# Altium integrated library Infineon ESD & EMI.IntLib: 71 symbols (part 1 of 2)
Pins are listed as number, name and electrical type; pins without a type are passive.

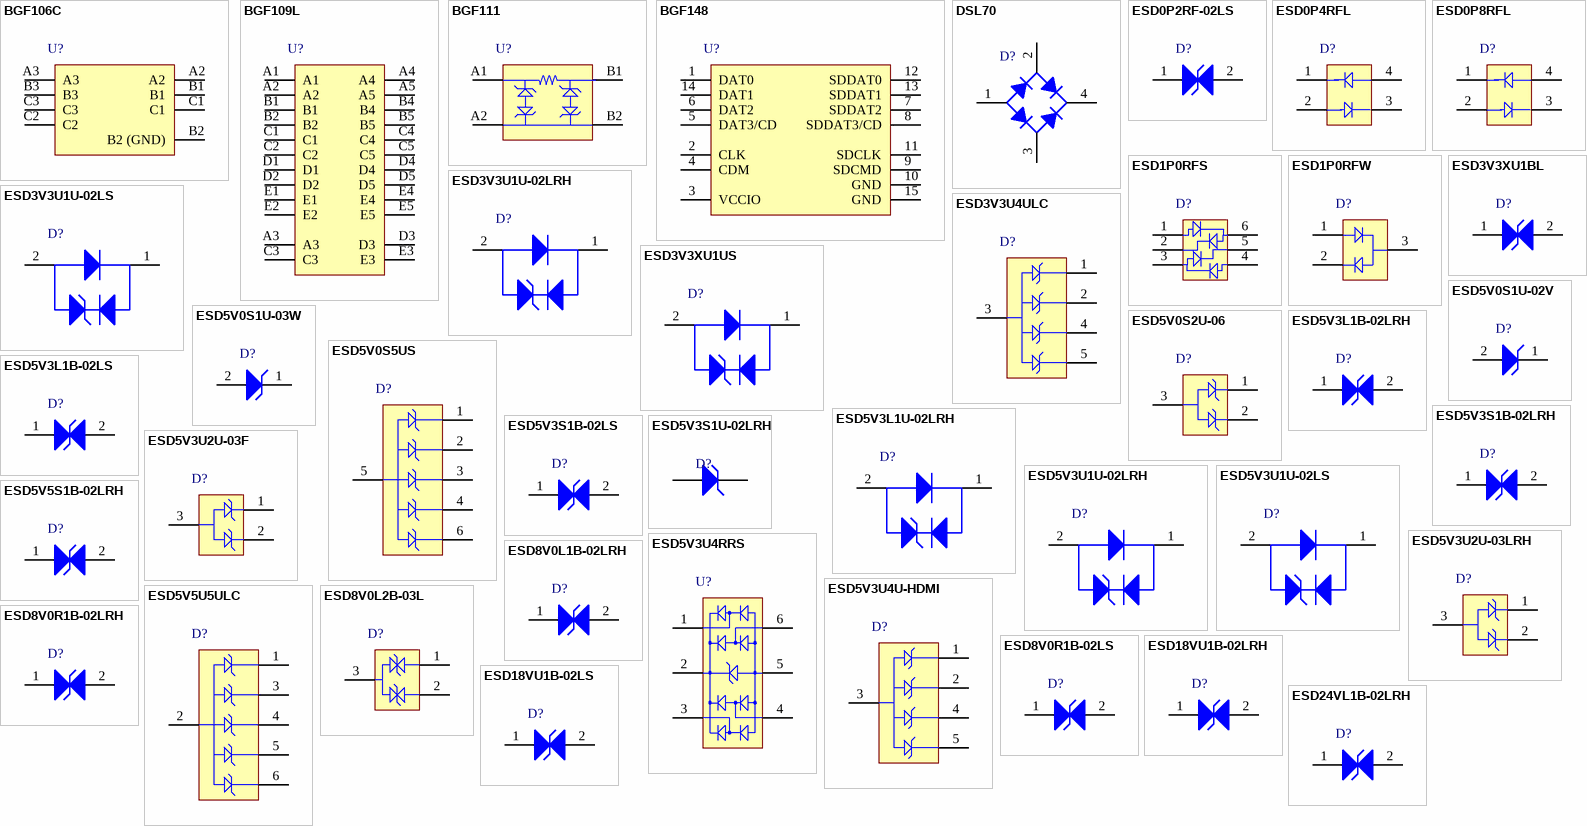
[diagram p0: symbols BGF106C to ESD24VL1B-02LRH]

## BGF106C
designator U?
SIM Card Interface Filter and ESD Protection, -40 to 85 degC, WLP-8-11, Reel, Green; Manufacturer: Infineon; PartNumber: BGF106C; Ct, Cl @ 0V: 16.5 pF; Green: TRUE; GSM-Rejection: -12.7 dB, -17 dB; Line Resistance: 47 Ohm, 100 Ohm; Protected Lines: 4; VBR (min): 6.5 V; VESD (max) (IEC61000-4-2 contact): 15 kV; VESD (min) (IEC61000-4-2 contact): -15 kV; Vop (max): 5.5 V; DatasheetVersion: Rev. 2.0; PackageVersion: Jan-10; PackageReference: WLP-8-11; PackageDescription: 8-Pin Wafer Level Package, Body 1.2 x 1.2 mm, Pitch 0.4 mm; Halogen-free: TRUE; Packing: Reel; Mounting Technology: Surface Mount; ComponentLink1Description: Manufacturer URL; ComponentLink1URL: http://www.infineon.com/; ComponentLink2Description: Datasheet; ComponentLink2URL: http://www.infineon.com/dgdl/BGF106C.pdf?folderId=db3a30431f848401011fcbf2ab4c04c4&fileId=db3a304325305e6d01254e6c63bb54a0; ComponentLink3Description: Package Specification; ComponentLink3URL: http://www.infineon.com/dgdl/WLP-8-11-Package_Overview.pdf?folderId=db3a304325afd6e001261e185c2c6090&fileId=db3a304325afd6e001261e1ff7f260a9
footprint INF-WLP-8-11 (BGA, 8-Balls, Body 1.2x1.2mm, Pitch 0.4mm)
pins: A2, A3, B1, B2 B2 (GND), B3, C1, C2, C3

## BGF109L
designator U?
10 Channel LCD Filter Array with ESD Protection, -40 to 85 degC, WLP-24-4, Reel, Green; Manufacturer: Infineon; PartNumber: BGF109L; Ct, Cl @ 0V: 42.5 pF; Green: TRUE; GSM-Rejection: 46 dB; Line Resistance: 90 Ohm; Protected Lines: 10; VBR (min): 6.5 V; VESD (max) (IEC61000-4-2 contact): 15 kV; VESD (min) (IEC61000-4-2 contact): -15 kV; Vop (max): 5 V; DatasheetVersion: Rev. 3.0; PackageVersion: May-08; PackageReference: WLP-24-4; PackageDescription: 24-Pin Wafer Level Package, Body 2.1 x 2.1 mm, Pitch 0.4 mm; Halogen-free: TRUE; Packing: Reel; Mounting Technology: Surface Mount; ComponentLink1Description: Manufacturer URL; ComponentLink1URL: http://www.infineon.com/; ComponentLink2Description: Datasheet; ComponentLink2URL: http://www.infineon.com/dgdl/bgf109l.pdf?folderId=db3a30431441fb5d011488a97dc80dec&fileId=db3a30431ed1d7b2011f65cb89970645; ComponentLink3Description: Package Specification; ComponentLink3URL: http://www.infineon.com/dgdl/WLP-24-4-Package_Overview.pdf?folderId=db3a304317a748360118336ce0a76d41&fileId=db3a304319c6f18c011a0a782471318b
footprint INF-WLP-24-4 (BGA, 24-Balls, Body 2.1x2.1mm, Pitch 0.4mm)
pins: A1, A2, A3, A4, A5, B1, B2, B4, B5, C1, C2, C3, C4, C5, D1, D2, D3, D4, D5, E1, E2, E3, E4, E5

## BGF111
designator U?
TV-Out Filter and ESD Protection, -40 to 85 degC, WLP-4-1, Reel, Green; Manufacturer: Infineon; PartNumber: BGF111; Ct, Cl @ 0V: 44 pF; Green: TRUE; GSM-Rejection: 34 dB; Line Resistance: 75 Ohm; Protected Lines: 1; VBR (min): 16.5 V; VESD (max) (IEC61000-4-2 contact): 15 kV; VESD (min) (IEC61000-4-2 contact): -15 kV; Vop (max): 5 V; DatasheetVersion: Rev. 2.0; PackageVersion: May-08; PackageReference: WLP-4-1; PackageDescription: 4-Pin Wafer Level Package, Body 0.75 x 0.75 mm, Pitch 0.4 mm; Halogen-free: TRUE; Packing: Reel; Mounting Technology: Surface Mount; ComponentLink1Description: Manufacturer URL; ComponentLink1URL: http://www.infineon.com/; ComponentLink2Description: Datasheet; ComponentLink2URL: http://www.infineon.com/dgdl/bgf111.pdf?folderId=db3a30431441fb5d0114883802cf0d02&fileId=db3a30431ed1d7b2011f65d72c5d0655; ComponentLink3Description: Package Specification; ComponentLink3URL: http://www.infineon.com/dgdl/WLP-4-1-Package_Overview.pdf?folderId=db3a30431689f4420116b4275619065e&fileId=db3a304319c6f18c011a06f22d893757
footprint INF-WLP-4-1 (BGA, 4-Balls, Body 0.75x0.75mm, Pitch 0.4mm)
pins: A1, A2 A2 (GND), B1, B2 B2 (GND)

## BGF148
designator U?
7 Line ESD and EMI Interface Protection Device, -40 to 85 degC, TSNP-14, Reel, Green; Manufacturer: Infineon; PartNumber: BGF148; Ct, Cl @ 0V: 1.2 pF; Green: TRUE; Line Resistance: 20 Ohm; Rdyn: 0.03 Ohm; Vcl @ Ipp: 8.5 V; VESD(min)(IEC61000-4-2 contact): 15 kV; Vop (max): 5.5 V; DatasheetVersion: Rev. 1.9.2; PackageVersion: Feb-13; PackageReference: TSNP-14-2; PackageDescription: 14-Pin Thin Small Non Leaded Package, 1.95 x 1.8 mm Body, 0.4 mm Pitch; Halogen-free: TRUE; Packing: Reel; Mounting Technology: Surface Mount; ComponentLink1Description: Manufacturer URL; ComponentLink1URL: http://www.infineon.com/; ComponentLink2Description: Datasheet; ComponentLink2URL: http://www.infineon.com/dgdl/BGF148_v1.9.2.pdf?folderId=db3a30431f848401011fcbf2ab4c04c4&fileId=db3a304340155f3d014029da72bd036a; ComponentLink3Description: Package Specification; ComponentLink3URL: http://www.infineon.com/dgdl/TSNP-14-2-Package_Overview.pdf?folderId=db3a304327b89750012805e1379a6124&fileId=db3a30433cabdd35013cc89975906470
footprint INF-TSNP-14-2_V (TSNP, 14-Leads, Body 1.95x1.8mm, Pitch 0.4mm, Thermal Pad 0.95x0.95mm)
pins: 1 DAT0 "Int. PIN", 2 CLK "Int. PIN", 3 VCCIO "Ext. PIN", 4 CDM "Int. PIN", 5 DAT3/CD, 6 DAT2 "Int. PIN", 7 SDDAT2 "Ext. PIN", 8 SDDAT3/CD, 9 SDCMD "Ext. PIN", 10 GND, 11 SDCLK "Ext. PIN", 12 SDDAT0 "Ext. PIN", 13 SDDAT1 "Ext. PIN", 14 DAT1 "Int. PIN", 15 GND

## DSL70
designator D?
Silicon TVS Diodes Array, -55 to 125 degC, SOT143, Reel, Green; Manufacturer: Infineon; PartNumber: DSL70; CL (max): 5 pF; CL (typ): 2.5 pF; Green: TRUE; IEFT: 80 A; IR (max): 5 uA; Rdyn typ reverse: 0.1 Ohm; VESD (max): 15 kV; VESD (min): -15 kV; VRWM: 50 V; PackageReference: SOT143; PackageDescription: 4-Pin Small Outline Transistor Package, 1.3 x 2.9 mm Body; Supplier 1: Mouser; Supplier Part Number 1: N/A; Packing: Reel; Mounting Technology: Surface Mount; ComponentLink1Description: Manufacturer URL; ComponentLink1URL: http://www.infineon.com/; ComponentLink2Description: Datasheet; ComponentLink2URL: http://www.infineon.com/dgdl/dsl70.pdf?folderId=db3a30431441fb5d0114927dbe551006&fileId=db3a30431441fb5d0114927e397f1007; ComponentLink3Description: Package Specification; ComponentLink3URL: http://www.infineon.com/dgdl/SOT143-Package_Overview.pdf?folderId=db3a30431936bc4b011952ce8b1b3bed&fileId=db3a30431936bc4b011952df42203c0c
footprint INF-SOT143_V (SOT143, 4-Leads, Body 2.9x1.3 mm)
pins: 1 A, 2 C, 3 C, 4 K

## ESD0P2RF-02LS
designator D?
Bi-Directional Ultra-low Capacitance ESD / Transient Protection Diode, PG-TSSLP-2-1, Reel, Green; Manufacturer: Infineon; PartNumber: ESD0P2RF-02LS; Green: TRUE; DatasheetVersion: Rev. 1.2; PackageVersion: Nov-10; PackageReference: PG-TSSLP-2-1; PackageDescription: 2-Pin Thin Super Small Leadless Package, Body 0.62 x 0.32 mm, Pitch 0.355 mm; Halogen-free: TRUE; Mounting Technology: Surface Mount; ComponentLink1Description: Manufacturer URL; ComponentLink1URL: http://www.infineon.com/; ComponentLink2Description: Datasheet; ComponentLink2URL: http://www.infineon.com/dgdl/ESD0P2RF+Series_ESD_Transient_Protection_Diode_Infineon_rev_1_2.pdf?folderId=db3a30431f848401011fcbf2ab4c04c4&fileId=db3a30433004641301300d0df89f7ac2; ComponentLink3Description: Package Specification; ComponentLink3URL: http://www.infineon.com/dgdl/TSSLP-2-1%2C-2-Package_Overview.pdf?folderId=db3a304319c6f18c011a05f3b79036a4&fileId=db3a304319c6f18c011a062088fd36bd
footprint INF-PG-TSSLP-2-1_V (TSSLP, 2 Leads, Body 0.62x0.32mm, Pitch 0.38mm)
pins: 1 C, 2 C

## ESD0P4RFL
designator D?
RF ESD Protection Diode, -50 to 150 degC, PG-TSLP-4-7, Reel, Green; Manufacturer: Infineon; PartNumber: ESD0P4RFL; CL (typ): 0.4 pF; Green: TRUE; IEFT: 40 A; IR (max): 100 uA; Isurge: 5 A; Protected Lines: 1; VESD (max): 15 kV; VRWM (max): 50 V; PackageVersion: Dec-09; PackageReference: PG-TSLP-4-7; PackageDescription: 4-Pin Thin Small Leadless Package, Body 1.2 x 0.8 mm, Pitch 0.45 mm; Halogen-free: TRUE; Packing: Reel; Mounting Technology: Surface Mount; ComponentLink1Description: Manufacturer URL; ComponentLink1URL: http://www.infineon.com/; ComponentLink2Description: Datasheet; ComponentLink2URL: http://www.infineon.com/dgdl/esd0p4rfl.pdf?folderId=db3a30431441fb5d01149221c9230fb2&fileId=db3a304318f3fe29011914ad9b81031f; ComponentLink3Description: Package Specification; ComponentLink3URL: http://www.infineon.com/dgdl/TSLP-4-7-Package_Overview.pdf?folderId=db3a304319bc939a0119bf25a0b300de&fileId=db3a304319bc939a0119bf31f7c200f7
footprint INF-PG-TSLP-4-7_V (TSLP, 4-Leads, Body 1.2x0.8mm, 0.45mm)
pins: 1 K1, 2 A2, 3 K2, 4 A1

## ESD0P8RFL
designator D?
RF ESD Protection Diode, -50 to 150 degC, PG-TSLP-4-7, Reel, Green; Manufacturer: Infineon; PartNumber: ESD0P8RFL; CL (typ): 0.8 pF; Green: TRUE; IEFT: 40 A; IR (max): 100 uA; Isurge: 10 A; Protected Lines: 1; VESD (max): 20 kV; VRWM (max): 50 V; PackageVersion: Dec-09; PackageReference: PG-TSLP-4-7; PackageDescription: 4-Pin Thin Small Leadless Package, Body 1.2 x 0.8 mm, Pitch 0.45 mm; Supplier 1: Mouser; Supplier Part Number 1: N/A; Halogen-free: TRUE; Packing: Reel; Mounting Technology: Surface Mount; ComponentLink1Description: Manufacturer URL; ComponentLink1URL: http://www.infineon.com/; ComponentLink2Description: Datasheet; ComponentLink2URL: http://www.infineon.com/dgdl/esd0p8rfl.pdf?folderId=db3a30431441fb5d01149221c9230fb2&fileId=db3a30431441fb5d0114922f25950fd5; ComponentLink3Description: Package Specification; ComponentLink3URL: http://www.infineon.com/dgdl/TSLP-4-7-Package_Overview.pdf?folderId=db3a304319bc939a0119bf25a0b300de&fileId=db3a304319bc939a0119bf31f7c200f7
footprint INF-PG-TSLP-4-7_V (TSLP, 4-Leads, Body 1.2x0.8mm, 0.45mm)
pins: 1 K1, 2 A2, 3 K2, 4 A1

## ESD1P0RFS
designator D?
RF ESD Protection Diode, -55 to 150 degC, SOT363, Reel, Green; Manufacturer: Infineon; PartNumber: ESD1P0RFS; CL (max): 1.5 pF; CL (typ): 1 pF; Green: TRUE; IEFT: 40 A; IR (max): 100 uA; Isurge: 10 A; Protected Lines: 1; VESD (max): 20 kV; VRWM (max): 70 V; PackageReference: SOT363; PackageDescription: 6-Pin Small Outline Transistor Package, 1.25 x 2 mm Body; Halogen-free: TRUE; Packing: Reel; Mounting Technology: Surface Mount; ComponentLink1Description: Manufacturer URL; ComponentLink1URL: http://www.infineon.com/; ComponentLink2Description: Datasheet; ComponentLink2URL: http://www.infineon.com/dgdl/esd1p0rfseries.pdf?folderId=db3a30431441fb5d01149221c9230fb2&fileId=db3a30431441fb5d01149228afda0fc7; ComponentLink3Description: Package Specification; ComponentLink3URL: http://www.infineon.com/dgdl/SOT363-Package_Overview.pdf?folderId=db3a30431936bc4b01195360bd8f3cdc&fileId=db3a30431936bc4b0119536b62bf3cf5
footprint INF-SOT363_V (SOT23, 6-Leads, Body 2x1.25 mm, Pitch 0.65 mm)
pins: 1 A1, 2 K2, 3 C3, 4 A4, 5 K5, 6 C6

## ESD1P0RFW
designator D?
RF ESD Protection Diode, -55 to 150 degC, SOT323, Reel, Green; Manufacturer: Infineon; PartNumber: ESD1P0RFW; CL (max): 1.5 pF; CL (typ): 1 pF; Green: TRUE; IEFT: 40 A; IR (max): 100 uA; Isurge: 10 A; Protected Lines: 1; Rdyn typ forward: 0 Ohm; VESD (max): 20 kV; VRWM (max): 70 V; PackageReference: SOT323; PackageDescription: 3-Pin Small Outline Transistor Package, 1.25 x 2 mm Body, 0.65 mm Pitch; Halogen-free: TRUE; Packing: Reel; Rdyn typ reverse: 0 Ohm; Mounting Technology: Surface Mount; ComponentLink1Description: Manufacturer URL; ComponentLink1URL: http://www.infineon.com/; ComponentLink2Description: Datasheet; ComponentLink2URL: http://www.infineon.com/dgdl/esd1p0rfseries.pdf?folderId=db3a30431441fb5d01149221c9230fb2&fileId=db3a30431441fb5d01149228afda0fc7; ComponentLink3Description: Package Specification; ComponentLink3URL: http://www.infineon.com/dgdl/SOT323-Package_Overview.pdf?folderId=db3a30431936bc4b0119533e1dcb3c92&fileId=db3a30431936bc4b011953495f283cb1
footprint INF-SOT323_N (SOT23, 3-Leads, Body 2x1.25 mm, Pitch 0.65 mm, IPC Medium Density)
footprint INF-SOT323_L (SOT23, 3-Leads, Body 2x1.25 mm, Pitch 0.65 mm, IPC High Density)
footprint INF-SOT323_M (SOT23, 3-Leads, Body 2x1.25 mm, Pitch 0.65 mm, IPC Low Density)
pins: 1 A1, 2 K2, 3 C

## ESD3V3U1U-02LRH
designator D?
Uni-directional Ultra-Low Capacitance ESD / Transient Protection Diode, -55 to 125 degC, PG-TSLP-2-7, Reel, Green; Manufacturer: Infineon; PartNumber: ESD3V3U1U-02LRH; CL (max): 0.6 pF; CL (typ): 0.4 pF; Green: TRUE; IEFT: 50 A; IR (max): 50 uA; Isurge: 3 A; Protected Lines: 1; Rdyn typ forward: 0.5 Ohm; Rdyn typ reverse: 0.6 Ohm; VESD (max): 20 kV; VRWM (max): 3.3 V; DatasheetVersion: Rev. 1.0; PackageVersion: Apr-13; PackageReference: PG-TSLP-2-7; PackageDescription: 2-Pin Thin Small Leadless Package, Body 1 x 0.6 mm, Pitch 0.65 mm; Supplier 1: Mouser; Supplier Part Number 1: N/A; Halogen-free: TRUE; Packing: Reel; Mounting Technology: Surface Mount; ComponentLink1Description: Manufacturer URL; ComponentLink1URL: http://www.infineon.com/; ComponentLink2Description: Datasheet; ComponentLink2URL: http://www.infineon.com/dgdl/ESD3V3U1USeries_ESD_Transient_Protection_Diode_Infineon.pdf?folderId=db3a30431441fb5d011488a9e66f0ded&fileId=db3a304316f66ee801173fe430ea3cdc; ComponentLink3Description: Package Specification; ComponentLink3URL: http://www.infineon.com/dgdl/TSLP-2-7%2C-17-Package_Overview.pdf?folderId=db3a30431936bc4b011956dca02837a0&fileId=db3a30431936bc4b01195723a67f37c1
footprint INF-PG-TSLP-2-7_V (TSLP, 2-Leads, Body 1x0.6mm, Pitch 0.65mm)
pins: 1 C1, 2 C2

## ESD3V3U1U-02LS
designator D?
Uni-directional Ultra-Low Capacitance ESD / Transient Protection Diode, -55 to 125 degC, PG-TSSLP-2-1, Reel, Green; Manufacturer: Infineon; PartNumber: ESD3V3U1U-02LS; CL (max): 0.6 pF; CL (typ): 0.4 pF; Green: TRUE; IEFT: 50 A; IR (max): 50 uA; Isurge: 3 A; Protected Lines: 1; Rdyn typ forward: 0.5 Ohm; Rdyn typ reverse: 0.6 Ohm; VESD (max): 20 kV; VRWM (max): 3.3 V; DatasheetVersion: Rev. 1.0; PackageVersion: Nov-10; PackageReference: PG-TSSLP-2-1; PackageDescription: 2-Pin Thin Super Small Leadless Package, Body 0.62 x 0.32 mm, Pitch 0.355 mm; Supplier 1: Mouser; Supplier Part Number 1: N/A; Halogen-free: TRUE; Packing: Reel; Mounting Technology: Surface Mount; ComponentLink1Description: Manufacturer URL; ComponentLink1URL: http://www.infineon.com/; ComponentLink2Description: Datasheet; ComponentLink2URL: http://www.infineon.com/dgdl/ESD3V3U1USeries_ESD_Transient_Protection_Diode_Infineon.pdf?folderId=db3a30431441fb5d011488a9e66f0ded&fileId=db3a304316f66ee801173fe430ea3cdc; ComponentLink3Description: Package Specification; ComponentLink3URL: http://www.infineon.com/dgdl/TSSLP-2-1%2C-2-Package_Overview.pdf?folderId=db3a304319c6f18c011a05f3b79036a4&fileId=db3a304319c6f18c011a062088fd36bd
footprint INF-PG-TSSLP-2-1_V (TSSLP, , Body 0.62x0.32mm, Pitch 0.38mm)
pins: 1 C1, 2 C2

## ESD3V3U4ULC
designator D?
Ultra-Low Capacitance ESD / Transient Protection Array, -40 to 125 degC, PG-TSLP-9-1, Reel, Green; Manufacturer: Infineon; PartNumber: ESD3V3U4ULC; CL (max): 0.65 pF; CL (typ): 0.4 pF; Green: TRUE; IEFT: 50 A; IR (max): 50 uA; Isurge: 3 A; Protected Lines: 4; Rdyn typ forward: 0.23 Ohm; Rdyn typ reverse: 0.19 Ohm; VESD (max): 20 kV; VRWM (max): 3.3 V; DatasheetVersion: Rev. 1.2; PackageVersion: Mar-13; PackageReference: PG-TSLP-9-1; PackageDescription: 9-Pin Thin Small Leadless Package, Body 2.3 x 1 mm, Pitch 0.5 mm; Halogen-free: TRUE; Packing: Reel; Mounting Technology: Surface Mount; ComponentLink1Description: Manufacturer URL; ComponentLink1URL: http://www.infineon.com/; ComponentLink2Description: Datasheet; ComponentLink2URL: http://www.infineon.com/dgdl/ESD3V3U4ULC_rev_1_2_ESD_Transient_Protection_Diode_Infineon.pdf?folderId=db3a30431f848401011fcbf2ab4c04c4&fileId=db3a30433004641301300d2a08107ac6; ComponentLink3Description: Package Specification; ComponentLink3URL: http://www.infineon.com/dgdl/ESD3V3U4ULC_rev_1_2_ESD_Transient_Protection_Diode_Infineon.pdf?folderId=db3a30431f848401011fcbf2ab4c04c4&fileId=db3a30433004641301300d2a08107ac6
footprint INF-PG-TSLP-9-1_V (TSLP, 9-Leads, Body 2.3x1mm)
pins: 1 K1, 2 K2, 3 A, 4 K4, 5 K5

## ESD3V3XU1BL
designator D?
Bi-directional Ultra-Low Capacitance ESD / Transient Protection Diode, -40 to 125 degC, PG-TSLP-2-17, Reel, Green; Manufacturer: Infineon; PartNumber: ESD3V3XU1BL; CL (typ): 0.22 pF; Green: TRUE; IEFT: 50 A; IR (max): 50 uA; Isurge: 3 A; Protected Lines: 1; Rdyn typ forward: 0.45 Ohm; VESD (max): 20 kV; VESD (min): -20 kV; VRWM (max): 3.6 V; VRWM (min): -3.6 V; DatasheetVersion: Rev. 1.2; PackageVersion: Apr-13; PackageReference: PG-TSLP-2-17; PackageDescription: 2-Pin Thin Small Leadless Package, Body 1 x 0.6 mm, Pitch 0.65 mm; Halogen-free: TRUE; Packing: Reel; Rdyn typ reverse: 0.45 Ohm; Mounting Technology: Surface Mount; ComponentLink1Description: Manufacturer URL; ComponentLink1URL: http://www.infineon.com/; ComponentLink2Description: Datasheet; ComponentLink2URL: http://www.infineon.com/dgdl/ESD3V3XU1BL_rev_1_2.pdf?folderId=db3a30431f848401011fcbf2ab4c04c4&fileId=db3a30433d346a2d013d3a8b10a63853; ComponentLink3Description: Package Specification; ComponentLink3URL: http://www.infineon.com/dgdl/TSLP-2-7%2C-17-Package_Overview.pdf?folderId=db3a30431936bc4b011956dca02837a0&fileId=db3a30431936bc4b01195723a67f37c1
footprint INF-PG-TSLP-2-17_V (TSLP, 2-Leads, Body 1x0.6mm, Pitch 0.65mm)
pins: 1 C, 2 C

## ESD3V3XU1US
designator D?
Uni-Directional Ultra Low Capacitance ESD / Transient Protection Diode, -40 to 125 degC, PG-TSSLP-2-1, Reel, Green; Manufacturer: Infineon; PartNumber: ESD3V3XU1US; Green: TRUE; DatasheetVersion: Rev. 1.1; PackageVersion: Nov-10; PackageReference: PG-TSSLP-2-1; PackageDescription: 2-Pin Thin Super Small Leadless Package, Body 0.62 x 0.32 mm, Pitch 0.355 mm; Halogen-free: TRUE; Mounting Technology: Surface Mount; ComponentLink1Description: Manufacturer URL; ComponentLink1URL: http://www.infineon.com/; ComponentLink2Description: Datasheet; ComponentLink2URL: http://www.infineon.com/dgdl/ESD3V3XU1U+Series_ESD_Transient_Protection_Diode_Infineon.pdf?folderId=db3a30431f848401011fcbf2ab4c04c4&fileId=db3a304332fc1ee7013320959f435233; ComponentLink3Description: Package Specification; ComponentLink3URL: http://www.infineon.com/dgdl/TSSLP-2-1%2C-2-Package_Overview.pdf?folderId=db3a304319c6f18c011a05f3b79036a4&fileId=db3a304319c6f18c011a062088fd36bd
footprint INF-PG-TSSLP-2-1_V (TSSLP, 2 Leads, Body 0.62x0.32mm, Pitch 0.38mm)
pins: 1 C1, 2 C2

## ESD5V0S1U-02V
designator D?
Uni-directional ESD / Transient Protection Diode, -55 to 125 degC, PG-SC79-2-1, Reel, Green; Manufacturer: Infineon; PartNumber: ESD5V0S1U-02V; CL (typ,max): 35 pF, 40 pF; Green: TRUE; IR (max): 100 uA; Rdyn typ forward: 0.3 Ohm; Rdyn typ reverse: 0.2 Ohm; VESD (max): 20 kV; VRWM (max): 5 V; DatasheetVersion: Rev. 1.1; PackageReference: PG-SC79-2-1; PackageDescription: 2-Pin Semiconductor Package, Body 0.8 x 1.2 mm, Pitch 1.35 mm; Halogen-free: TRUE; Packing: Reel; Mounting Technology: Surface Mount; ComponentLink1Description: Manufacturer URL; ComponentLink1URL: http://www.infineon.com/; ComponentLink2Description: Datasheet; ComponentLink2URL: http://www.infineon.com/dgdl/ESD5V0S1U-02V_ESD_Transient+_Protection_Diode_Infineon_rev_1_1.pdf?folderId=db3a30431f848401011fcbf2ab4c04c4&fileId=db3a304331a821aa0131b3950b730568; ComponentLink3Description: Package Specification; ComponentLink3URL: http://www.infineon.com/dgdl/SC79-Package_Overview.pdf?folderId=db3a30431936bc4b011951fbddb03b15&fileId=db3a30431936bc4b01195226fe583b41
footprint INF-PG-SC79-2-1_V (SC79, 2-Leads, Body 1.2x0.8mm, Pitch 1.35mm)
pins: 1 K, 2 A

## ESD5V0S1U-03W
designator D?
Silicon TVS Diode, -55 to 125 degC, SOD323, Reel, Green; Manufacturer: Infineon; PartNumber: ESD5V0S1U-03W; CL (max): 500 pF; CL (typ): 430 pF; Green: TRUE; IEFT: 80 A; IR (max): 20 uA; Rdyn typ forward: 6 Ohm; VESD (max): 30 kV; VESD (min): -30 kV; VRWM: 5 V; PackageReference: SOD323; PackageDescription: 2-Pin Small Outline Diode Package, 1.25 x 1.7 mm Body; Supplier 1: Mouser; Supplier Part Number 1: N/A; Packing: Reel; Rdyn typ reverse: 6 Ohm; Mounting Technology: Surface Mount; ComponentLink1Description: Manufacturer URL; ComponentLink1URL: http://www.infineon.com/; ComponentLink2Description: Datasheet; ComponentLink2URL: http://www.infineon.com/dgdl/esd5v0sseries.pdf?folderId=db3a30431441fb5d0114883802cf0d02&fileId=db3a30431441fb5d01148839aaf20d03; ComponentLink3Description: Package Specification; ComponentLink3URL: http://www.infineon.com/dgdl/SOD323-Package_Overview.pdf?folderId=db3a30431936bc4b011952aab84f3bbe&fileId=db3a30431936bc4b011952beed653be3
footprint INF-SOD323_V (SOD, 2-Leads, Body 1.7x1.25 mm)
pins: 1 K, 2 A

## ESD5V0S2U-06
designator D?
Silicon TVS Diode, -55 to 125 degC, SOT23, Reel, Green; Manufacturer: Infineon; PartNumber: ESD5V0S2U-06; CL (max): 500 pF; CL (typ): 430 pF; Green: TRUE; IEFT: 80 A; IR (max): 20 uA; Rdyn typ forward: 6 Ohm; VESD (max): 30 kV; VESD (min): -30 kV; VRWM: 5 V; PackageVersion: Apr-08; PackageReference: SOT23; PackageDescription: 3-Pin Small Outline Transistor Package, 1.3 x 2.9 mm Body, 0.95 mm Pitch; Supplier 1: Mouser; Supplier Part Number 1: N/A; Packing: Reel; Rdyn typ reverse: 6 Ohm; Mounting Technology: Surface Mount; ComponentLink1Description: Manufacturer URL; ComponentLink1URL: http://www.infineon.com/; ComponentLink2Description: Datasheet; ComponentLink2URL: http://www.infineon.com/dgdl/esd5v0sseries.pdf?folderId=db3a30431441fb5d0114883802cf0d02&fileId=db3a30431441fb5d01148839aaf20d03; ComponentLink3Description: Package Specification; ComponentLink3URL: http://www.infineon.com/dgdl/SOT23-Package_Overview.pdf?folderId=db3a30431936bc4b0119532290053c66&fileId=db3a30431936bc4b0119533468123c85
footprint INF-SOT23_N (SOT23, 3-Leads, Body 2.9x1.3 mm, Pitch 0.95 mm, IPC Medium Density)
footprint INF-SOT23_L (SOT23, 3-Leads, Body 2.9x1.3 mm, Pitch 0.95 mm, IPC High Density)
footprint INF-SOT23_M (SOT23, 3-Leads, Body 2.9x1.3 mm, Pitch 0.95 mm, IPC Low Density)
pins: 1 K1, 2 K2, 3 A

## ESD5V0S5US
designator D?
Multi-Channel TVS Diode Array, -55 to 125 degC, SOT363, Reel, Green; Manufacturer: Infineon; PartNumber: ESD5V0S5US; CL (max): 90 pF; CL (typ): 70 pF; Green: TRUE; IEFT: 80 A; IR (max): 5 uA; Rdyn typ forward: 0.15 Ohm; Rdyn typ reverse: 0.17 Ohm; VESD (max): 30 kV; VESD (min): -30 kV; VRWM: 5.3 V; PackageReference: SOT363; PackageDescription: 6-Pin Small Outline Transistor Package, 1.25 x 2 mm Body; Halogen-free: TRUE; Packing: Reel; Mounting Technology: Surface Mount; ComponentLink1Description: Manufacturer URL; ComponentLink1URL: http://www.infineon.com/; ComponentLink2Description: Datasheet; ComponentLink2URL: http://www.infineon.com/dgdl/esd5v0sxus.pdf?folderId=db3a30431441fb5d0114883802cf0d02&fileId=db3a30431441fb5d0114883be5d40d04; ComponentLink3Description: Package Specification; ComponentLink3URL: http://www.infineon.com/dgdl/SOT363-Package_Overview.pdf?folderId=db3a30431936bc4b01195360bd8f3cdc&fileId=db3a30431936bc4b0119536b62bf3cf5
footprint INF-SOT363_V (SOT23, 6-Leads, Body 2x1.25 mm, Pitch 0.65 mm)
pins: 1 K, 2 K, 3 K, 4 K, 5 A, 6 K

## ESD5V3L1B-02LRH
designator D?
Bi-directional Low Capacitance ESD / Transient Protection Diode, -40 to 125 degC, PG-TSLP-2-17, Reel, Green; Manufacturer: Infineon; PartNumber: ESD5V3L1B-02LRH; CL (typ,max): 5 pF, 7 pF; Green: TRUE; IR (max): 100 uA; Rdyn typ forward: 0.37 Ohm; Rdyn typ reverse: 0.22 Ohm; VESD (max): 20 kV; VRWM (max): 5.3 V; DatasheetVersion: Rev. 1.1; PackageVersion: Apr-13; PackageReference: PG-TSLP-2-17; PackageDescription: 2-Pin Thin Small Leadless Package, Body 1 x 0.6 mm, Pitch 0.65 mm; Halogen-free: TRUE; Packing: Reel; Mounting Technology: Surface Mount; ComponentLink1Description: Manufacturer URL; ComponentLink1URL: http://www.infineon.com/; ComponentLink2Description: Datasheet; ComponentLink2URL: http://www.infineon.com/dgdl/ESD5V3L1B+Series_rev_1_1_ESD_Transient_Protection_Diode_Infineon.pdf?folderId=db3a30431f848401011fcbf2ab4c04c4&fileId=db3a304331a821aa0131b3e5a2430578; ComponentLink3Description: Package Specification; ComponentLink3URL: http://www.infineon.com/dgdl/TSLP-2-7%2C-17-Package_Overview.pdf?folderId=db3a30431936bc4b011956dca02837a0&fileId=db3a30431936bc4b01195723a67f37c1
footprint INF-PG-TSLP-2-17_V (TSLP, 2-Leads, Body 1x0.6mm, Pitch 0.65mm)
pins: 1 C, 2 C

## ESD5V3L1B-02LS
designator D?
Bi-Directional Low Capacitance ESD / Transient Protection Diode, -40 to 125 degC, PG-TSSLP-2-1, Reel, Green; Manufacturer: Infineon; PartNumber: ESD5V3L1B-02LS; Green: TRUE; DatasheetVersion: Rev. 1.1; PackageVersion: Nov-10; PackageReference: PG-TSSLP-2-1; PackageDescription: 2-Pin Thin Super Small Leadless Package, Body 0.62 x 0.32 mm, Pitch 0.355 mm; Halogen-free: TRUE; Mounting Technology: Surface Mount; ComponentLink1Description: Manufacturer URL; ComponentLink1URL: http://www.infineon.com/; ComponentLink2Description: Datasheet; ComponentLink2URL: http://www.infineon.com/dgdl/ESD5V3L1B+Series_rev_1_1_ESD_Transient_Protection_Diode_Infineon.pdf?folderId=db3a30431f848401011fcbf2ab4c04c4&fileId=db3a304331a821aa0131b3e5a2430578; ComponentLink3Description: Package Specification; ComponentLink3URL: http://www.infineon.com/dgdl/TSSLP-2-1%2C-2-Package_Overview.pdf?folderId=db3a304319c6f18c011a05f3b79036a4&fileId=db3a304319c6f18c011a062088fd36bd
footprint INF-PG-TSSLP-2-1_V (TSSLP, 2 Leads, Body 0.62x0.32mm, Pitch 0.38mm)
pins: 1 C, 2 C

## ESD5V3L1U-02LRH
designator D?
Low Capacitance TVS Diode, -55 to 125 degC, PG-TSLP-2-17, Reel, Green; Manufacturer: Infineon; PartNumber: ESD5V3L1U-02LRH; CL (max): 2 pF; CL (typ): 1 pF; Green: TRUE; IEFT: 80 A; IR (max): 100 uA; Isurge: 6 A; Protected Lines: 1; Rdyn typ forward: 0.25 Ohm; Rdyn typ reverse: 0.3 Ohm; VESD (max): 30 kV; VRWM (max): 5.3 V; PackageVersion: Apr-13; PackageReference: PG-TSLP-2-17; PackageDescription: 2-Pin Thin Small Leadless Package, Body 1 x 0.6 mm, Pitch 0.65 mm; Halogen-free: TRUE; Packing: Reel; Mounting Technology: Surface Mount; ComponentLink1Description: Manufacturer URL; ComponentLink1URL: http://www.infineon.com/; ComponentLink2Description: Datasheet; ComponentLink2URL: http://www.infineon.com/dgdl/esd5v3l1u-02lrh.pdf?folderId=db3a30431f848401011fcbf2ab4c04c4&fileId=db3a3043284aacd8012895a71c230078; ComponentLink3Description: Package Specification; ComponentLink3URL: http://www.infineon.com/dgdl/TSLP-2-7%2C-17-Package_Overview.pdf?folderId=db3a30431936bc4b011956dca02837a0&fileId=db3a30431936bc4b01195723a67f37c1
footprint INF-PG-TSLP-2-17_V (TSLP, 2-Leads, Body 1x0.6mm, Pitch 0.65mm)
pins: 1 C1, 2 C2

## ESD5V3S1B-02LRH
designator D?
Silicon TVS Diode, -55 to 125 degC, TSLP-2-17, Reel, Green; Manufacturer: Infineon; PartNumber: ESD5V3S1B-02LRH; CL (typ,max): 17.5 pF, 20 pF; Green: TRUE; IR (max): 100 uA; Rdyn typ forward: 0.4 Ohm; VESD (max): 20 kV; VRWM (max): 5.3 V; PackageVersion: Apr-13; PackageReference: TSLP-2-17; PackageDescription: 2-Pin Thin Small Leadless Package, Body 1 x 0.6 mm, Pitch 0.65 mm; Halogen-free: TRUE; Packing: Reel; Rdyn typ reverse: 0.4 Ohm; Mounting Technology: Surface Mount; ComponentLink1Description: Manufacturer URL; ComponentLink1URL: http://www.infineon.com/; ComponentLink2Description: Datasheet; ComponentLink2URL: http://www.infineon.com/dgdl/esd5v3s1b-02lrh.pdf?folderId=db3a30431f848401011fcbf2ab4c04c4&fileId=db3a304320d39d590121aa3d31861c85; ComponentLink3Description: Package Specification; ComponentLink3URL: http://www.infineon.com/dgdl/TSLP-2-7%2C-17-Package_Overview.pdf?folderId=db3a30431936bc4b011956dca02837a0&fileId=db3a30431936bc4b01195723a67f37c1
footprint INF-TSLP-2-17_V (TSLP, 2-Leads, Body 1x0.6mm, Pitch 0.65mm)
pins: 1 C, 2 C

## ESD5V3S1B-02LS
designator D?
Bi-Directional Symmetrical Medium Capacitance ESD / Transient Protection Diode, -40 to 125 degC, PG-TSSLP-2, Reel, Green; Manufacturer: Infineon; PartNumber: ESD5V3S1B-02LS; CL (max): 20 pF; CL (typ): 17 pF; Green: TRUE; IR (max): 0.1 uA; Isurge: 5 A; Rdyn typ forward: 0.5 Ohm; VESD (max): 20 kV; VESD (min): -20 kV; VRWM (max): 5.3 V; VRWM (min): -5.3 V; DatasheetVersion: Rev. 1.0; PackageVersion: Nov-10; PackageReference: PG-TSSLP-2-1; PackageDescription: 2-Pin Thin Super Small Leadless Package, 0.62 x 0.32 mm Body, 0.355 mm Pitch; Halogen-free: TRUE; Packing: Reel; Rdyn typ reverse: 0.5 Ohm; Mounting Technology: Surface Mount; ComponentLink1Description: Manufacturer URL; ComponentLink1URL: http://www.infineon.com/; ComponentLink2Description: Datasheet; ComponentLink2URL: http://www.infineon.com/dgdl/ESD5V3S1B-02LS_ESD_Transient_Protection_Diode_Infineon.pdf?folderId=db3a30431f848401011fcbf2ab4c04c4&fileId=db3a3043341f67a1013422ea89c42fab; ComponentLink3Description: Package Specification; ComponentLink3URL: http://www.infineon.com/dgdl/TSSLP-2-1%2C-2-Package_Overview.pdf?folderId=db3a304319c6f18c011a05f3b79036a4&fileId=db3a304319c6f18c011a062088fd36bd
footprint INF-PG-TSSLP-2-1_V (TSSLP, 2 Leads, Body 0.62x0.32mm, Pitch 0.38mm)
pins: 1 C, 2 C

## ESD5V3S1U-02LRH
designator D?
Ultra Low Clamping Unidirectional ESD / Transient Protection Diode, -55 to 125 degC, TSLP-2, Reel, Green; Manufacturer: Infineon; PartNumber: ESD5V3S1U-02LRH; CL (max): 40 pF; CL (typ): 35 pF; Green: TRUE; IEFT: 50 A; IR (max): 0.1 uA; Isurge: 5.5 A; Rdyn typ forward: 0.27 Ohm; VESD (max): 25 kV; VESD (min): -25 kV; VRWM (max): 5.3 V; PackageVersion: Oct-13; PackageReference: TSLP-2-17; PackageDescription: 2-Pin Thin Small Leadless Package, 1 x 0.6 mm Body, 0.65 mm Pitch; Halogen-free: TRUE; Packing: Reel; Rdyn typ reverse: 0.27 Ohm; Mounting Technology: Surface Mount; ComponentLink1Description: Manufacturer URL; ComponentLink1URL: http://www.infineon.com/; ComponentLink2Description: Datasheet; ComponentLink2URL: http://www.infineon.com/dgdl/esd5v3s1u-02lrh.pdf?folderId=db3a30431f848401011fcbf2ab4c04c4&fileId=db3a3043243b5f17012475f71c984e73; ComponentLink3Description: Package Specification; ComponentLink3URL: http://www.infineon.com/dgdl/TSLP-2-7%2C-17%2C-21-Package_Overview.pdf?folderId=db3a30431689f4420116afb5e4d9058b&fileId=db3a304340155f3d01403574dc4c4cfd
footprint INF-TSLP-2-17_V (TSLP, 2-Leads, Body 1x0.6mm, Pitch 0.65mm)
pins: 1 K, 2 A

## ESD5V3U1U-02LRH
designator D?
Uni-directional Ultra-Low Capacitance ESD / Transient Protection Diode, -55 to 125 degC, PG-TSLP-2-7, Reel, Green; Manufacturer: Infineon; PartNumber: ESD5V3U1U-02LRH; CL (max): 0.6 pF; CL (typ): 0.4 pF; Green: TRUE; IEFT: 50 A; IR (max): 100 uA; Isurge: 3 A; Protected Lines: 1; Rdyn typ forward: 0.5 Ohm; Rdyn typ reverse: 0.6 Ohm; VESD (max): 20 kV; VRWM (max): 5.3 V; DatasheetVersion: Rev. 1.0; PackageVersion: Apr-13; PackageReference: PG-TSLP-2-7; PackageDescription: 2-Pin Thin Small Leadless Package, Body 1 x 0.6 mm, Pitch 0.65 mm; Supplier 1: Mouser; Supplier Part Number 1: N/A; Halogen-free: TRUE; Packing: Reel; Mounting Technology: Surface Mount; ComponentLink1Description: Manufacturer URL; ComponentLink1URL: http://www.infineon.com/; ComponentLink2Description: Datasheet; ComponentLink2URL: http://www.infineon.com/dgdl/ESD5V3U1USeries_ESD_Transient_Protection_Diode.pdf?folderId=db3a30431441fb5d011488a9e66f0ded&fileId=db3a304316f66ee801173fccac3b3cc7; ComponentLink3Description: Package Specification; ComponentLink3URL: http://www.infineon.com/dgdl/TSLP-2-7%2C-17-Package_Overview.pdf?folderId=db3a30431936bc4b011956dca02837a0&fileId=db3a30431936bc4b01195723a67f37c1
footprint INF-PG-TSLP-2-7_V (TSLP, 2-Leads, Body 1x0.6mm, Pitch 0.65mm)
pins: 1 C1, 2 C2

## ESD5V3U1U-02LS
designator D?
Uni-directional Ultra-Low Capacitance ESD / Transient Protection Diode, -55 to 125 degC, PG-TSSLP-2-1, Reel, Green; Manufacturer: Infineon; PartNumber: ESD5V3U1U-02LS; CL (max): 0.6 pF; CL (typ): 0.4 pF; Green: TRUE; IEFT: 50 A; IR (max): 100 uA; Isurge: 3 A; Protected Lines: 1; Rdyn typ forward: 0.5 Ohm; Rdyn typ reverse: 0.6 Ohm; VESD (max): 20 kV; VRWM (max): 5.3 V; DatasheetVersion: Rev. 1.0; PackageVersion: Nov-10; PackageReference: PG-TSSLP-2-1; PackageDescription: 2-Pin Thin Super Small Leadless Package, Body 0.62 x 0.32 mm, Pitch 0.355 mm; Supplier 1: Mouser; Supplier Part Number 1: N/A; Halogen-free: TRUE; Packing: Reel; Mounting Technology: Surface Mount; ComponentLink1Description: Manufacturer URL; ComponentLink1URL: http://www.infineon.com/; ComponentLink2Description: Datasheet; ComponentLink2URL: http://www.infineon.com/dgdl/ESD5V3U1USeries_ESD_Transient_Protection_Diode.pdf?folderId=db3a30431441fb5d011488a9e66f0ded&fileId=db3a304316f66ee801173fccac3b3cc7; ComponentLink3Description: Package Specification; ComponentLink3URL: http://www.infineon.com/dgdl/TSSLP-2-1%2C-2-Package_Overview.pdf?folderId=db3a304319c6f18c011a05f3b79036a4&fileId=db3a304319c6f18c011a062088fd36bd
footprint INF-PG-TSSLP-2-1_V (TSSLP, , Body 0.62x0.32mm, Pitch 0.38mm)
pins: 1 C1, 2 C2

## ESD5V3U2U-03F
designator D?
Ultra-Low Capacitance ESD Diode Array, -40 to 125 degC, PG-TSFP-3-1, Reel, Green; Manufacturer: Infineon; PartNumber: ESD5V3U2U-03F; CL (max): 0.6 pF; CL (typ): 0.4 pF; Green: TRUE; IEFT: 40 A; IR (max): 50 uA; Isurge: 3 A; Protected Lines: 2; Rdyn typ forward: 0.5 Ohm; Rdyn typ reverse: 0.6 Ohm; VESD (max): 20 kV; VRWM (max): 5.3 V; PackageVersion: Apr-08; PackageReference: PG-TSFP-3-1; PackageDescription: 3-Pin Thin Small Flat Package, Body 1.2 x 0.8 mm, Pitch 0.4 mm; Halogen-free: TRUE; Packing: Reel; Mounting Technology: Surface Mount; ComponentLink1Description: Manufacturer URL; ComponentLink1URL: http://www.infineon.com/; ComponentLink2Description: Datasheet; ComponentLink2URL: http://www.infineon.com/dgdl/esd5v3u2useries.pdf?folderId=db3a30431441fb5d011488a9e66f0ded&fileId=db3a30431b0626df011b0d3e3ca97dc0; ComponentLink3Description: Package Specification; ComponentLink3URL: http://www.infineon.com/dgdl/TSFP-3-1%2C-2-Package_Overview.pdf?folderId=db3a30431936bc4b0119538cdcb03d2d&fileId=db3a30431936bc4b0119539929863d46
footprint INF-PG-TSFP-3-1_V (TSFP, 3-Leads, Body 1.2x0.8mm, Pitch 0.4mm)
pins: 1 K1, 2 K2, 3 A

## ESD5V3U2U-03LRH
designator D?
Ultra-Low Capacitance ESD Diode Array, -40 to 125 degC, PG-TSLP-3-7, Reel, Green; Manufacturer: Infineon; PartNumber: ESD5V3U2U-03LRH; CL (max): 0.6 pF; CL (typ): 0.4 pF; Green: TRUE; IEFT: 40 A; IR (max): 50 uA; Isurge: 3 A; Protected Lines: 2; Rdyn typ forward: 0.5 Ohm; Rdyn typ reverse: 0.6 Ohm; VESD (max): 20 kV; VRWM (max): 5.3 V; PackageVersion: May-08; PackageReference: PG-TSLP-3-7; PackageDescription: 3-Pin Thin Small Leadless Package, Body 1 x 0.6 mm, Pitch 0.35 mm; Halogen-free: TRUE; Packing: Reel; Mounting Technology: Surface Mount; ComponentLink1Description: Manufacturer URL; ComponentLink1URL: http://www.infineon.com/; ComponentLink2Description: Datasheet; ComponentLink2URL: http://www.infineon.com/dgdl/esd5v3u2useries.pdf?folderId=db3a30431441fb5d011488a9e66f0ded&fileId=db3a30431b0626df011b0d3e3ca97dc0; ComponentLink3Description: Package Specification; ComponentLink3URL: http://www.infineon.com/dgdl/TSLP-3-7-Package_Overview.pdf?folderId=db3a304319bc939a0119be8b3e1f0050&fileId=db3a304319bc939a0119beaf025c006d
footprint INF-PG-TSLP-3-7_V (TSLP, 3-Leads, Body 1x0.6mm)
pins: 1 K1, 2 K2, 3 A

## ESD5V3U4RRS
designator U?
Ultra-Low Capacitance ESD Diode Array, -55 to 125 degC, SOT363, Reel, Green; Manufacturer: Infineon; PartNumber: ESD5V3U4RRS; CL (max): 0.6 pF; CL (typ): 0.4 pF; Green: TRUE; IEFT: 50 A; IR (max): 100 uA; Isurge: 3 A; Protected Lines: 5; Rdyn typ forward: 0.44 Ohm; Rdyn typ reverse: 0.62 Ohm; VESD (max): 15 kV; VRWM (max): 5.3 V; PackageReference: SOT363; PackageDescription: 6-Pin Small Outline Transistor Package, 1.25 x 2 mm Body; Halogen-free: TRUE; Packing: Reel; Mounting Technology: Surface Mount; ComponentLink1Description: Manufacturer URL; ComponentLink1URL: http://www.infineon.com/; ComponentLink2Description: Datasheet; ComponentLink2URL: http://www.infineon.com/dgdl/esd5v3u4rrs.pdf?folderId=db3a30431441fb5d011488a9e66f0ded&fileId=db3a30431c69a49d011cad6ae0c10a10; ComponentLink3Description: Package Specification; ComponentLink3URL: http://www.infineon.com/dgdl/SOT363-Package_Overview.pdf?folderId=db3a30431936bc4b01195360bd8f3cdc&fileId=db3a30431936bc4b0119536b62bf3cf5
footprint INF-SOT363_V (SOT23, 6-Leads, Body 2x1.25 mm, Pitch 0.65 mm)
pins: 1 C, 2 K, 3 C, 4 C, 5 A, 6 C

## ESD5V3U4U-HDMI
designator D?
Uni-directional Ultra-Low Capacitance ESD / Transient Protection Array, -40 to 125 degC, PG-TSLP-9-1, Reel, Green; Manufacturer: Infineon; PartNumber: ESD5V3U4U-HDMI; CL (max): 0.6 pF; CL (typ): 0.4 pF; Green: TRUE; IEFT: 50 A; IR (max): 50 uA; Isurge: 3 A; Protected Lines: 4; Rdyn typ forward: 0.5 Ohm; Rdyn typ reverse: 0.6 Ohm; VESD (max): 20 kV; VRWM (max): 5.3 V; DatasheetVersion: Rev. 1.1; PackageVersion: Mar-13; PackageReference: PG-TSLP-9-1; PackageDescription: 9-Pin Thin Small Leadless Package, Body 2.3 x 1 mm, Pitch 0.5 mm; Halogen-free: TRUE; Packing: Reel; Mounting Technology: Surface Mount; ComponentLink1Description: Manufacturer URL; ComponentLink1URL: http://www.infineon.com/; ComponentLink2Description: Datasheet; ComponentLink2URL: http://www.infineon.com/dgdl/ESD5V3U4U-HDMI_rev_1_1_ESD_Transient_Protection_Diode.pdf?folderId=db3a30431441fb5d011488a9e66f0ded&fileId=db3a30431ce5fb52011d4d0e9b312dd0; ComponentLink3Description: Package Specification; ComponentLink3URL: http://www.infineon.com/dgdl/ESD3V3U4ULC_rev_1_2_ESD_Transient_Protection_Diode_Infineon.pdf?folderId=db3a30431f848401011fcbf2ab4c04c4&fileId=db3a30433004641301300d2a08107ac6
footprint INF-PG-TSLP-9-1_V (TSLP, 9-Leads, Body 2.3x1mm)
pins: 1 K1, 2 K2, 3 A, 4 K4, 5 K5

## ESD5V5S1B-02LRH
designator D?
Low Clamping Bi-directional ESD Protection Diode, -55 to 125 degC, TSLP-2-17, Reel, Green; Manufacturer: Infineon; PartNumber: ESD5V5S1B-02LRH; CL (max): 45 pF; CL (typ): 25 pF; Green: TRUE; IR (max): 100 uA; Rdyn typ forward: 8 Ohm; VESD (max): 30 kV; VESD (min): -30 kV; VRWM: 5.5 V; DatasheetVersion: Rev. 1.1; PackageVersion: Apr-13; PackageReference: TSLP-2-17; PackageDescription: 2-Pin Thin Small Leadless Package, Body 1 x 0.6 mm, Pitch 0.65 mm; Halogen-free: TRUE; Packing: Reel; Mounting Technology: Surface Mount; ComponentLink1Description: Manufacturer URL; ComponentLink1URL: http://www.infineon.com/; ComponentLink2Description: Datasheet; ComponentLink2URL: http://www.infineon.com/dgdl/ESD5V5S1B-02LRH_rev_1_1.pdf?folderId=db3a30431f848401011fcbf2ab4c04c4&fileId=db3a3043392f529e013933957cd55277; ComponentLink3Description: Package Specification; ComponentLink3URL: http://www.infineon.com/dgdl/TSLP-2-7%2C-17-Package_Overview.pdf?folderId=db3a30431936bc4b011956dca02837a0&fileId=db3a30431936bc4b01195723a67f37c1
footprint INF-TSLP-2-17_V (TSLP, 2-Leads, Body 1x0.6mm, Pitch 0.65mm)
pins: 1 C, 2 C

## ESD5V5U5ULC
designator D?
Ultra-Low Capacitance ESD / Transient / Surge Protection Array, -40 to 125 degC, PG-SC74, Reel, Green; Manufacturer: Infineon; PartNumber: ESD5V5U5ULC; CL (max): 1 pF; CL (typ): 0.45 pF; Green: TRUE; IEFT: 50 A; IR (max): 100 uA; Isurge: 6 A; Protected Lines: 5; Rdyn typ forward: 0.3 Ohm; Rdyn typ reverse: 0.2 Ohm; VESD (max): 25 kV; VRWM (max): 5.5 V; DatasheetVersion: Rev. 1.0; PackageVersion: Apr-08; PackageReference: PG-SC74; PackageDescription: 6-Pin Semiconductor Package, Body 2.9 x 1.6 mm, Pitch 0.95 mm; Packing: Reel; Mounting Technology: Surface Mount; ComponentLink1Description: Manufacturer URL; ComponentLink1URL: http://www.infineon.com/; ComponentLink2Description: Datasheet; ComponentLink2URL: http://www.infineon.com/dgdl/ESD5V5U5ULC_ESD_Transient_Protection_Diode_Infineon.pdf?folderId=db3a30431f848401011fcbf2ab4c04c4&fileId=db3a304331a821aa0131b36e85a20560; ComponentLink3Description: Package Specification; ComponentLink3URL: http://www.infineon.com/dgdl/SC74-Package_Overview.pdf?folderId=db3a30431936bc4b01194dec844f40d9&fileId=db3a30431936bc4b01195175d46e3ab3
footprint INF-PG-SC74_N (SOT23, 6-Leads, Body 2.9x1.6mm, Pitch 0.95mm, IPC Medium Density)
footprint INF-PG-SC74_L (SOT23, 6-Leads, Body 2.9x1.6mm, Pitch 0.95mm, IPC High Density)
footprint INF-PG-SC74_M (SOT23, 6-Leads, Body 2.9x1.6mm, Pitch 0.95mm, IPC Low Density)
pins: 1 K1, 2 A, 3 K3, 4 K4, 5 K5, 6 K6

## ESD8V0L1B-02LRH
designator D?
Bi-directional Low Capacitance TVS Diode, -55 to 125 degC, PG-TSLP-2-17, Reel, Green; Manufacturer: Infineon; PartNumber: ESD8V0L1B-02LRH; CL (typ,max): 8.5 pF, 13 pF; Green: TRUE; IR (max): 50 uA; Rdyn typ forward: 0.18 Ohm; Rdyn typ reverse: 0.3 Ohm; VESD (max): 25 kV; VRWM (max): 14 V; VRWM (min): -8 V; PackageVersion: Apr-13; PackageReference: PG-TSLP-2-17; PackageDescription: 2-Pin Thin Small Leadless Package, Body 1 x 0.6 mm, Pitch 0.65 mm; Halogen-free: TRUE; Packing: Reel; Mounting Technology: Surface Mount; ComponentLink1Description: Manufacturer URL; ComponentLink1URL: http://www.infineon.com/; ComponentLink2Description: Datasheet; ComponentLink2URL: http://www.infineon.com/dgdl/esd8v0lseries.pdf?folderId=db3a30431441fb5d011488a9e66f0ded&fileId=db3a30431441fb5d011488ab01860dee; ComponentLink3Description: Package Specification; ComponentLink3URL: http://www.infineon.com/dgdl/TSLP-2-7%2C-17-Package_Overview.pdf?folderId=db3a30431936bc4b011956dca02837a0&fileId=db3a30431936bc4b01195723a67f37c1
footprint INF-PG-TSLP-2-17_V (TSLP, 2-Leads, Body 1x0.6mm, Pitch 0.65mm)
pins: 1 C, 2 C

## ESD8V0L2B-03L
designator D?
Bi-directional Low Capacitance TVS Diode, -55 to 125 degC, TSLP-3-1, Reel, Green; Manufacturer: Infineon; PartNumber: ESD8V0L2B-03L; CL (typ,max): 4 pF, 7 pF; Green: TRUE; IR (max): 50 uA; Rdyn typ forward: 0.6 Ohm; VESD (max): 15 kV; VRWM (max): 14 V; VRWM (min): -8 V; PackageReference: TSLP-3-1; PackageDescription: 3-Pin Thin Small Leadless Package, 0.6 x 1 mm Body; Supplier 1: Mouser; Supplier Part Number 1: N/A; Halogen-free: TRUE; Packing: Reel; Rdyn typ reverse: 0.6 Ohm; Mounting Technology: Surface Mount; ComponentLink1Description: Manufacturer URL; ComponentLink1URL: http://www.infineon.com/; ComponentLink2Description: Datasheet; ComponentLink2URL: http://www.infineon.com/dgdl/esd8v0lseries.pdf?folderId=db3a30431441fb5d011488a9e66f0ded&fileId=db3a30431441fb5d011488ab01860dee; ComponentLink3Description: Package Specification; ComponentLink3URL: http://www.infineon.com/dgdl/TSLP-3-1-Package_Overview.pdf?folderId=db3a30431936bc4b011957434db737d2&fileId=db3a30431936bc4b0119577ed2783818
footprint INF-TSLP-3-1_V (TSLP, 3-Leads, Body 0.6x1 mm)
pins: 1 C, 2 C, 3 C

## ESD8V0R1B-02LRH
designator D?
Bi-directional Low Capacitance TVS Diode, -55 to 150 degC, PG-TSLP-2-17, Reel, Green; Manufacturer: Infineon; PartNumber: ESD8V0R1B-02LRH; CL (typ,max): 4 pF, 7 pF; Green: TRUE; IR (max): 50 uA; Rdyn typ forward: 0.5 Ohm; Rdyn typ reverse: 0.6 Ohm; VESD (max): 15 kV; VRWM (max): 14 V; VRWM (min): -8 V; PackageVersion: Apr-13; PackageReference: PG-TSLP-2-17; PackageDescription: 2-Pin Thin Small Leadless Package, Body 1 x 0.6 mm, Pitch 0.65 mm; Supplier 1: Mouser; Supplier Part Number 1: N/A; Halogen-free: TRUE; Packing: Reel; Mounting Technology: Surface Mount; ComponentLink1Description: Manufacturer URL; ComponentLink1URL: http://www.infineon.com/; ComponentLink2Description: Datasheet; ComponentLink2URL: http://www.infineon.com/dgdl/esd8v0r1bseries.pdf?folderId=db3a30431f848401011fcbf2ab4c04c4&fileId=db3a30433004641301300cdb5a6b7aaa; ComponentLink3Description: Package Specification; ComponentLink3URL: http://www.infineon.com/dgdl/TSLP-2-7%2C-17-Package_Overview.pdf?folderId=db3a30431936bc4b011956dca02837a0&fileId=db3a30431936bc4b01195723a67f37c1
footprint INF-PG-TSLP-2-17_V (TSLP, 2-Leads, Body 1x0.6mm, Pitch 0.65mm)
pins: 1 C, 2 C

## ESD8V0R1B-02LS
designator D?
Bi-directional Low Capacitance TVS Diode, -55 to 150 degC, PG-TSSLP-2-1, Reel, Green; Manufacturer: Infineon; PartNumber: ESD8V0R1B-02LS; CL (typ,max): 4 pF, 7 pF; Green: TRUE; IR (max): 50 uA; Rdyn typ forward: 0.5 Ohm; Rdyn typ reverse: 0.6 Ohm; VESD (max): 15 kV; VRWM (max): 14 V; VRWM (min): -8 V; PackageVersion: Nov-10; PackageReference: PG-TSSLP-2-1; PackageDescription: 2-Pin Thin Super Small Leadless Package, Body 0.62 x 0.32 mm, Pitch 0.355 mm; Supplier 1: Mouser; Supplier Part Number 1: N/A; Halogen-free: TRUE; Packing: Reel; Mounting Technology: Surface Mount; ComponentLink1Description: Manufacturer URL; ComponentLink1URL: http://www.infineon.com/; ComponentLink2Description: Datasheet; ComponentLink2URL: http://www.infineon.com/dgdl/esd8v0r1bseries.pdf?folderId=db3a30431f848401011fcbf2ab4c04c4&fileId=db3a30433004641301300cdb5a6b7aaa; ComponentLink3Description: Package Specification; ComponentLink3URL: http://www.infineon.com/dgdl/TSSLP-2-1%2C-2-Package_Overview.pdf?folderId=db3a304319c6f18c011a05f3b79036a4&fileId=db3a304319c6f18c011a062088fd36bd
footprint INF-PG-TSSLP-2-1_V (TSSLP, , Body 0.62x0.32mm, Pitch 0.38mm)
pins: 1 C, 2 C

## ESD18VU1B-02LRH
designator D?
ESD / Transient Protection Diode for Near Field Communication (NFC), -40 to 85 degC, PG-TSLP-2-17, Reel, Green; Manufacturer: Infineon; PartNumber: ESD18VU1B-02LRH; CL (max): 0.6 pF; CL (typ): 0.3 pF; Green: TRUE; IR (max): 30 uA; Isurge: 2 A; Protected Lines: 1; Rdyn typ forward: 0.6 Ohm; VESD (max): 15 kV; VRWM (max): 18.5 V; DatasheetVersion: Rev. 1.1; PackageVersion: Apr-13; PackageReference: PG-TSLP-2-17; PackageDescription: 2-Pin Thin Small Leadless Package, Body 1 x 0.6 mm, Pitch 0.65 mm; Halogen-free: TRUE; Packing: Reel; Rdyn typ reverse: 0.6 Ohm; Mounting Technology: Surface Mount; ComponentLink1Description: Manufacturer URL; ComponentLink1URL: http://www.infineon.com/; ComponentLink2Description: Datasheet; ComponentLink2URL: http://www.infineon.com/dgdl/ESD18VU1B_Series_ESD_Transient_Protection_Diode_Infineon.pdf?folderId=db3a30431f848401011fcbf2ab4c04c4&fileId=db3a3043372d5cc801377e7ff97f1f15; ComponentLink3Description: Package Specification; ComponentLink3URL: http://www.infineon.com/dgdl/TSLP-2-7%2C-17-Package_Overview.pdf?folderId=db3a30431936bc4b011956dca02837a0&fileId=db3a30431936bc4b01195723a67f37c1
footprint INF-PG-TSLP-2-17_V (TSLP, 2-Leads, Body 1x0.6mm, Pitch 0.65mm)
pins: 1 C, 2 C

## ESD18VU1B-02LS
designator D?
ESD / Transient Protection Diode for Near Field Communication (NFC), -40 to 85 degC, PG-TSSLP-2-1, Reel, Green; Manufacturer: Infineon; PartNumber: ESD18VU1B-02LS; Green: TRUE; DatasheetVersion: Rev. 1.1; PackageVersion: Nov-10; PackageReference: PG-TSSLP-2-1; PackageDescription: 2-Pin Thin Super Small Leadless Package, Body 0.62 x 0.32 mm, Pitch 0.355 mm; Halogen-free: TRUE; Mounting Technology: Surface Mount; ComponentLink1Description: Manufacturer URL; ComponentLink1URL: http://www.infineon.com/; ComponentLink2Description: Datasheet; ComponentLink2URL: http://www.infineon.com/dgdl/ESD18VU1B_Series_ESD_Transient_Protection_Diode_Infineon.pdf?folderId=db3a30431f848401011fcbf2ab4c04c4&fileId=db3a3043372d5cc801377e7ff97f1f15; ComponentLink3Description: Package Specification; ComponentLink3URL: http://www.infineon.com/dgdl/TSSLP-2-1%2C-2-Package_Overview.pdf?folderId=db3a304319c6f18c011a05f3b79036a4&fileId=db3a304319c6f18c011a062088fd36bd
footprint INF-PG-TSSLP-2-1_V (TSSLP, 2 Leads, Body 0.62x0.32mm, Pitch 0.38mm)
pins: 1 C, 2 C

## ESD24VL1B-02LRH
designator D?
Low Capacitance Bi-directional ESD / Transient Protection Diode, -55 to 150 degC, PG-TSLP-2-17, Reel, Green; Manufacturer: Infineon; PartNumber: ESD24VL1B-02LRH; CL (typ,max): 2.5 pF, 3.5 pF; Green: TRUE; IR (max): 50 uA; Rdyn typ forward: 1 Ohm; VESD (max): 18 kV; VRWM (max): 24 V; VRWM (min): -24 V; DatasheetVersion: Rev. 1.1; PackageVersion: Apr-13; PackageReference: PG-TSLP-2-17; PackageDescription: 2-Pin Thin Small Leadless Package, Body 1 x 0.6 mm, Pitch 0.65 mm; Halogen-free: TRUE; Packing: Reel; Rdyn typ reverse: 1 Ohm; Mounting Technology: Surface Mount; ComponentLink1Description: Manufacturer URL; ComponentLink1URL: http://www.infineon.com/; ComponentLink2Description: Datasheet; ComponentLink2URL: http://www.infineon.com/dgdl/ESD24VL1B+Series_rev_1_1ESD_Transient_Protection_Diode_Infineon.pdf?folderId=db3a30431f848401011fcbf2ab4c04c4&fileId=db3a30433899edae01389eb4ba7d508e; ComponentLink3Description: Package Specification; ComponentLink3URL: http://www.infineon.com/dgdl/TSLP-2-7%2C-17-Package_Overview.pdf?folderId=db3a30431936bc4b011956dca02837a0&fileId=db3a30431936bc4b01195723a67f37c1
footprint INF-PG-TSLP-2-17_V (TSLP, 2-Leads, Body 1x0.6mm, Pitch 0.65mm)
pins: 1 C, 2 C

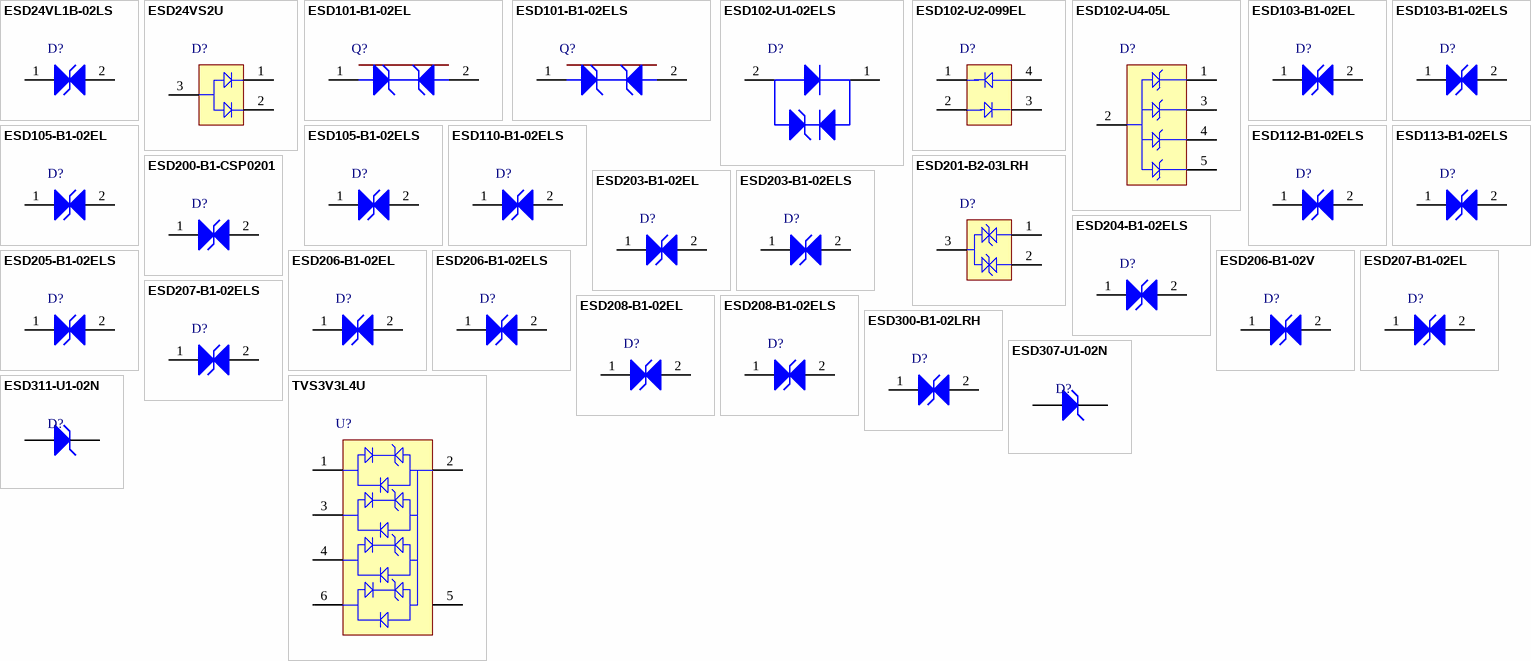
[diagram p1: symbols ESD24VL1B-02LS to TVS3V3L4U]

## ESD24VL1B-02LS
designator D?
Low Capacitance Bi-directional ESD / Transient Protection Diode, -55 to 150 degC, PG-TSSLP-2-1, Reel, Green; Manufacturer: Infineon; PartNumber: ESD24VL1B-02LS; CL (typ,max): 2.5 pF, 3.5 pF; Green: TRUE; IR (max): 50 uA; Rdyn typ forward: 1 Ohm; VESD (max): 18 kV; VRWM (max): 24 V; VRWM (min): -24 V; DatasheetVersion: Rev. 1.1; PackageVersion: Nov-10; PackageReference: PG-TSSLP-2-1; PackageDescription: 2-Pin Thin Super Small Leadless Package, Body 0.62 x 0.32 mm, Pitch 0.355 mm; Halogen-free: TRUE; Packing: Reel; Rdyn typ reverse: 1 Ohm; Mounting Technology: Surface Mount; ComponentLink1Description: Manufacturer URL; ComponentLink1URL: http://www.infineon.com/; ComponentLink2Description: Datasheet; ComponentLink2URL: http://www.infineon.com/dgdl/ESD24VL1B+Series_rev_1_1ESD_Transient_Protection_Diode_Infineon.pdf?folderId=db3a30431f848401011fcbf2ab4c04c4&fileId=db3a30433899edae01389eb4ba7d508e; ComponentLink3Description: Package Specification; ComponentLink3URL: http://www.infineon.com/dgdl/TSSLP-2-1%2C-2-Package_Overview.pdf?folderId=db3a304319c6f18c011a05f3b79036a4&fileId=db3a304319c6f18c011a062088fd36bd
footprint INF-PG-TSSLP-2-1_V (TSSLP, , Body 0.62x0.32mm, Pitch 0.38mm)
pins: 1 C, 2 C